# Altium schematic symbol library Inductors.SchLib: 36 symbols
Pins are listed as number, name and electrical type; pins without a type are passive.

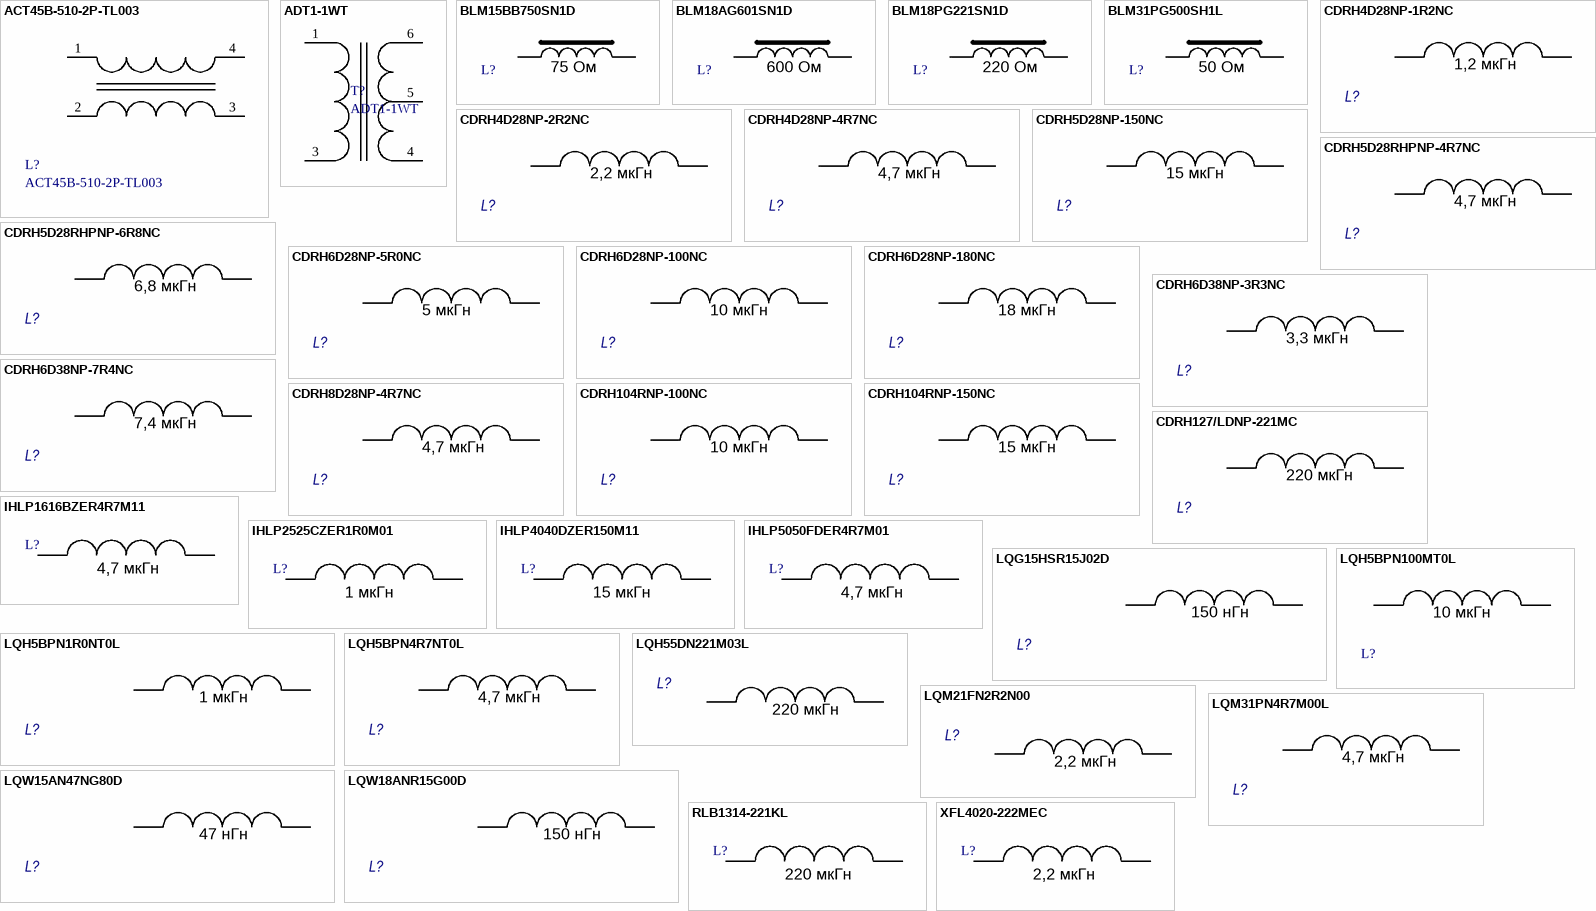
[diagram p0: symbols ACT45B-510-2P-TL003 to XFL4020-222MEC]

## ACT45B-510-2P-TL003
designator L?
Manufacturer: TDK; Type: Transformer; Part Number: ACT45B-510-2P-TL003
footprint IND_ACT45R_TDK
pins: 1, 2, 3, 4

## ADT1-1WT
designator T?
Manufacturer: Mini Circuits; Type: Transformer; Part Number: ADT1-1WT
footprint ADT1-1WT (Footprint not found)
pins: 1, 3, 4, 5, 6

## BLM15BB750SN1D
designator L?  Impedance: 75 Ом  (hidden comment: BLM15BB750SN1D)
Manufacturer: Murata; Type: Ferrite Beads; Part Number: BLM15BB750SN1D
footprint IND_BLM15_0402
pins: 1, 2

## BLM18AG601SN1D
designator L?  Impedance: 600 Ом  (hidden comment: BLM18AG601SN1D)
Manufacturer: Murata; Type: Ferrite Beads; Part Number: BLM18AG601SN1D
footprint IND_BLM18_0603_MUR
pins: 1, 2

## BLM18PG221SN1D
designator L?  Impedance: 220 Ом  (hidden comment: BLM18PG221SN1D)
Manufacturer: Murata; Type: Ferrite Beads; Part Number: BLM18PG221SN1D
footprint IND_BLM18_0603_MUR
pins: 1, 2

## BLM31PG500SH1L
designator L?  Impedance: 50 Ом  (hidden comment: BLM31PG500SH1L)
Manufacturer: Murata; Type: Ferrite Beads; Part Number: BLM31PG500SH1L
footprint IND_BLM31_1206
pins: 1, 2

## CDRH4D28NP-1R2NC
designator L?  value 1,2 мкГн  (hidden comment: CDRH4D28NP-1R2NC)
Manufacturer: SUMIDA; Current: 2,56; DCR: 17,5мОм; Part Number: CDRH4D28NP-1R2NC; Package: -
footprint IND_NP-4R7NC_SUM
pins: 1, 2
1 alternate drawing of the same symbol

## CDRH4D28NP-2R2NC
designator L?  value 2,2 мкГн  (hidden comment: CDRH4D28NP-2R2NC)
Manufacturer: SUMIDA; Current: 2,04; DCR: 23,2 мОм; Part Number: CDRH4D28NP-2R2NC; Package: -
footprint IND_NP-4R7NC_SUM
pins: 1, 2
1 alternate drawing of the same symbol

## CDRH4D28NP-4R7NC
designator L?  value 4,7 мкГн  (hidden comment: CDRH4D28NP-4R7NC)
Manufacturer: SUMIDA; Current: 1,32 A; DCR: 53,3 мОм; Part Number: CDRH4D28NP-4R7NC; Package: -
footprint IND_NP-4R7NC_SUM
pins: 1, 2
1 alternate drawing of the same symbol

## CDRH5D28NP-150NC
designator L?  value 15 мкГн  (hidden comment: CDRH5D28NP-150NC)
Manufacturer: SUMIDA; Current: 1,1; DCR: 103 мОм; Part Number: CDRH5D28NP-150NC; ComponentLink1URL: http://www.mouser.com/catalog/catalogusd/645/1188.pdf; ComponentLink1Description: Datasheet; Package: -
footprint IND_NP-100NC_SUM
pins: 1, 2
1 alternate drawing of the same symbol

## CDRH5D28RHPNP-4R7NC
designator L?  value 4,7 мкГн  (hidden comment: CDRH5D28RHPNP-4R7NC)
Manufacturer: SUMIDA; Current: 2,8; DCR: 43,1 мОм; Part Number: CDRH5D28RHPNP-4R7NC; Package: -
footprint IND_NP-100NC_SUM
pins: 1, 2
1 alternate drawing of the same symbol

## CDRH5D28RHPNP-6R8NC
designator L?  value 6,8 мкГн  (hidden comment: CDRH5D28RHPNP-6R8NC)
Manufacturer: SUMIDA; Current: 2,5; DCR: 61,3 мОм; Part Number: CDRH5D28RHPNP-6R8NC; Package: -
footprint IND_NP-100NC_SUM
pins: 1, 2
1 alternate drawing of the same symbol

## CDRH6D28NP-5R0NC
designator L?  value 5 мкГн  (hidden comment: CDRH6D28NP-5R0NC)
Manufacturer: SUMIDA; Current: 2,4 А; DCR: 31 мОм; Part Number: CDRH6D28NP-5R0NC
footprint IND_CDRH6D28NP-100NC_SUM
pins: 1, 2
1 alternate drawing of the same symbol

## CDRH6D28NP-100NC
designator L?  value 10 мкГн  (hidden comment: CDRH6D28NP-100NC)
Manufacturer: SUMIDA; Current: 1,7; DCR: 65 мОм; Part Number: CDRH6D28NP-100NC; ComponentLink1URL: http://www.mouser.com/catalog/catalogusd/645/1188.pdf; ComponentLink1Description: Datasheet; Package: -
footprint IND_CDRH6D28NP-100NC_SUM
pins: 1, 2
1 alternate drawing of the same symbol

## CDRH6D28NP-180NC
designator L?  value 18 мкГн  (hidden comment: CDRH6D28NP-180NC)
Manufacturer: SUMIDA; Current: 1,32; DCR: 95 мОм; Part Number: CDRH6D28NP-180NC; ComponentLink1URL: http://www.mouser.com/catalog/catalogusd/645/1188.pdf; ComponentLink1Description: Datasheet; Package: -
footprint IND_CDRH6D28NP-100NC_SUM
pins: 1, 2
1 alternate drawing of the same symbol

## CDRH6D38NP-3R3NC
designator L?  value 3,3 мкГн  (hidden comment: CDRH6D38NP-3R3NC)
Manufacturer: SUMIDA; Current: 3,5; DCR: 15 мОм; Part Number: CDRH6D38NP-3R3NC; Package: -
footprint CDRH6D28NP (Footprint not found)
pins: 1, 2
1 alternate drawing of the same symbol

## CDRH6D38NP-7R4NC
designator L?  value 7,4 мкГн  (hidden comment: CDRH6D38NP-7R4NC)
Manufacturer: SUMIDA; Current: 2,3; DCR: 23 мОм; Part Number: CDRH6D38NP-7R4NC; Package: -
footprint CDRH6D28NP (Footprint not found)
pins: 1, 2
1 alternate drawing of the same symbol

## CDRH8D28NP-4R7NC
designator L?  value 4,7 мкГн  (hidden comment: CDRH8D28NP-4R7NC)
Manufacturer: SUMIDA; Current: 3,4 A; DCR: 19 мОм; Part Number: CDRH8D28NP-4R7NC; Package: -
footprint IND_CDRH8D28NP-4R7NC_SUM
pins: 1, 2
1 alternate drawing of the same symbol

## CDRH104RNP-100NC
designator L?  value 10 мкГн  (hidden comment: CDRH104RNP-100NC)
Manufacturer: SUMIDA; Current: 3,8 А; DCR: 35 мОм; Part Number: CDRH104RNP-100NC
footprint IND_NC_SUM
pins: 1, 2
1 alternate drawing of the same symbol

## CDRH104RNP-150NC
designator L?  value 15 мкГн  (hidden comment: CDRH104RNP-150NC)
Manufacturer: SUMIDA; Current: 3,1; DCR: 50 мОм; Part Number: CDRH104RNP-150NC; ComponentLink1URL: http://www.mouser.com/catalog/catalogusd/645/1188.pdf; ComponentLink1Description: Datasheet
footprint IND_NC_SUM
pins: 1, 2
1 alternate drawing of the same symbol

## CDRH127/LDNP-221MC
designator L?  value 220 мкГн  (hidden comment: CDRH127/LDNP-221MC)
Manufacturer: SUMIDA; Current: 1,45 А; DCR: 338 мОм; Part Number: CDRH127/LDNP-221MC
footprint IND_CDRH127
pins: 1, 2
1 alternate drawing of the same symbol

## IHLP1616BZER4R7M11
designator L?  value 4,7 мкГн  (hidden comment: IHLP1616BZER4R7M11)
Manufacturer: Vishay; Current: 1,7 А; DCR: 105 мОм; Part Number: IHLP1616BZER4R7M11
footprint IHLP1616BZER4R7M11
pins: 1, 2

## IHLP2525CZER1R0M01
designator L?  value 1 мкГн  (hidden comment: IHLP2525CZER1R0M01)
Manufacturer: Vishay; Current: 11 А; DCR: 10 мОм; Part Number: IHLP2525CZER1R0M01
footprint IND25X25CZ-L
pins: 1, 2

## IHLP4040DZER150M11
designator L?  value 15 мкГн  (hidden comment: IHLP4040DZER150M11)
Manufacturer: Vishay; Current: 6,25 А; DCR: 45 мОм; Part Number: IHLP4040DZER150M11
footprint IND_IHLP_4040_DZ_VIS
pins: 1, 2

## IHLP5050FDER4R7M01
designator L?  value 4,7 мкГн  (hidden comment: IHLP5050FDER4R7M01)
Manufacturer: Vishay; Current: 13,5 А; DCR: 8,7 мОм; Part Number: IHLP5050FDER4R7M01
footprint IND50X50FD
pins: 1, 2

## LQG15HSR15J02D
designator L?  value 150 нГн  (hidden comment: LQG15HSR15J02D)
Manufacturer: MURATA; Current: 150 мА; DCR: 2,99 Ом; Part Number: LQG15HSR15J02D; Package: 0402
footprint IND_LQG15_0402
pins: 1, 2
1 alternate drawing of the same symbol

## LQH5BPN1R0NT0L
designator L?  value 1 мкГн  (hidden comment: LQH5BPN1R0NT0L)
Manufacturer: MURATA; Current: 5,8; DCR: 19 мОм; Part Number: LQH5BPN1R0NT0L; Package: 2020
footprint C2020I
pins: 1, 2
1 alternate drawing of the same symbol

## LQH5BPN4R7NT0L
designator L?  value 4,7 мкГн  (hidden comment: LQH5BPN4R7NT0L)
Manufacturer: Murata; Current: 3; DCR: 58 мОм; Part Number: LQH5BPN4R7NT0L; ComponentLink1URL: http://www.mouser.com/catalog/catalogusd/645/1188.pdf; ComponentLink1Description: Datasheet; Package: 2020
footprint C2020I
pins: 1, 2
1 alternate drawing of the same symbol

## LQH5BPN100MT0L
designator L?  value 10 мкГн  (hidden comment: LQH5BPN100MT0L)
Manufacturer: Murata; DCR: 106 мОм; Current: 2 А; Part Number: LQH5BPN100MT0L; Package: 2020
footprint C2020I
pins: 1, 2

## LQH55DN221M03L
designator L?  value 220 мкГн  (hidden comment: LQH55DN221M03L)
Manufacturer: MURATA; Current: 320 мА; DCR: 2,4 Ом; Part Number: LQH55DN221M03L; Package: 2220
footprint C2220I (Footprint not found)
pins: 1, 2
1 alternate drawing of the same symbol

## LQM21FN2R2N00
designator L?  value 2,2 мкГн  (hidden comment: LQM21FN2R2N00)
Manufacturer: Murata; Current: 150 мА; DCR: 280 мОм; Part Number: LQM21FN2R2N00; Package: 0805
footprint C0805I
pins: 1, 2
1 alternate drawing of the same symbol

## LQM31PN4R7M00L
designator L?  value 4,7 мкГн  (hidden comment: LQM31PN4R7M00L)
Manufacturer: MURATA; Current: 0,7A; DCR: 30 мОм; Part Number: LQM31PN4R7M00L; Package: -
footprint C1206I
pins: 1, 2
1 alternate drawing of the same symbol

## LQW15AN47NG80D
designator L?  value 47 нГн  (hidden comment: LQW15AN47NG80D)
Manufacturer: MURATA; Current: 210 мА; DCR: 1,08 Ом; Part Number: LQW15AN47NG80D; Package: 0402
footprint IND_LQW15_0402
pins: 1, 2
1 alternate drawing of the same symbol

## LQW18ANR15G00D
designator L?  value 150 нГн  (hidden comment: LQW18ANR15G00D)
Manufacturer: MURATA; Current: 160 мА; DCR: 1,5Ом; Part Number: LQW18ANR15G00D; Package: 0603
footprint IND_LQW18_0603
pins: 1, 2
1 alternate drawing of the same symbol

## RLB1314-221KL
designator L?  value 220 мкГн  (hidden comment: RLB1314-221KL)
Manufacturer: Bourns; Current: 680 мА; DCR: 250 мОм; Part Number: RLB1314-221KL
footprint IND_BOURNS_RLB1314
pins: 1, 2

## XFL4020-222MEC
designator L?  value 2,2 мкГн  (hidden comment: XFL4020-222MEC)
Manufacturer: Coilcraft; DCR: 23,5 мОм; Current: 8 А; Part Number: XFL4020-222MEC
footprint XFL4020-472MEB_COC
pins: 1, 2